# Altium schematic symbol library 860040472001.SchLib: 1 symbol
Pins are listed as number, name and electrical type; pins without a type are passive.

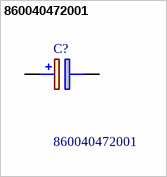
[diagram p0: symbol 860040472001]

## 860040472001
designator C?
Wurth Elektronik 47uF 25 V dc Aluminium Electrolytic Capacitor, WCAP-ATUL Series 5000h 5 (Dia.) x 11mm; Geometry.Height: 12.5mm; Mouser Part Number: 710-860040472001; Mouser Price/Stock: https://www.mouser.co.uk/ProductDetail/Wurth-Elektronik/860040472001?qs=0KOYDY2FL2%2FerVEkTnKDzQ%3D%3D; Manufacturer_Name: Wurth Elektronik; Manufacturer_Part_Number: 860040472001; Datasheet Link: https://componentsearchengine.com/Datasheets/2/860040472001.pdf
footprint CAPPRD200W52D500H1250
pins: 1 +, 2 -